# EAGLE library part R05CTE05S-R (library R05CTE05S-R)
1 Watt 16-Pin SOIC Single Output, 5VDC, Tape & Reel Source: Datasheet <https://recom-power.com/pdf/Econoline/RxxCTExxS.pdf>
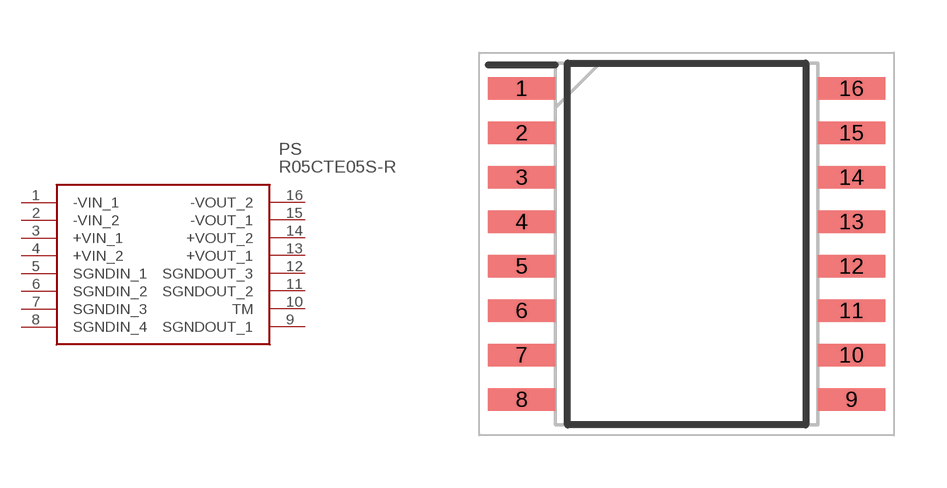
[diagram p0: symbol with the pads of SOIC127P1030X265-16N; footprint SOIC127P1030X265-16N]

Designator prefix PS

## R05CTE05S-R (Description: 1 Watt 16-Pin SOIC Single Output, 5VDC, Tape & Reel; Height: 2.65mm; Manufacturer_Name: RECOM Power; Manufacturer_Part_Number: R05CTE05S-R; Mouser_Part_Number: 919-R05CTE05S-R; Mouser_Price-Stock: https://www.mouser.co.uk/ProductDetail/RECOM-Power/R05CTE05S-R?qs=7D1LtPJG0i0SUCKLd%252BnSSQ%3D%3D)  [SOIC127P1030X265-16N]
1  -VIN_1
2  -VIN_2
3  +VIN_1
4  +VIN_2
5  SGNDIN_1
6  SGNDIN_2
7  SGNDIN_3
8  SGNDIN_4
9  SGNDOUT_1
10  TM
11  SGNDOUT_2
12  SGNDOUT_3
13  +VOUT_1
14  +VOUT_2
15  -VOUT_1
16  -VOUT_2

## Footprint SOIC127P1030X265-16N (pad centres in mm)
16-Pin SOIC-1
smd 1.925 x 0.65: 1 -4.712,4.445; 2 -4.712,3.175; 3 -4.712,1.905; 4 -4.712,0.635; 5 -4.712,-0.635; 6 -4.712,-1.905; 7 -4.712,-3.175; 8 -4.712,-4.445; 9 4.712,-4.445; 10 4.712,-3.175; 11 4.712,-1.905; 12 4.712,-0.635; 13 4.712,0.635; 14 4.712,1.905; 15 4.712,3.175; 16 4.712,4.445